# Altium schematic symbol library WE-TVS.SchLib: 29 symbols
Pins are listed as number, name and electrical type; pins without a type are passive.

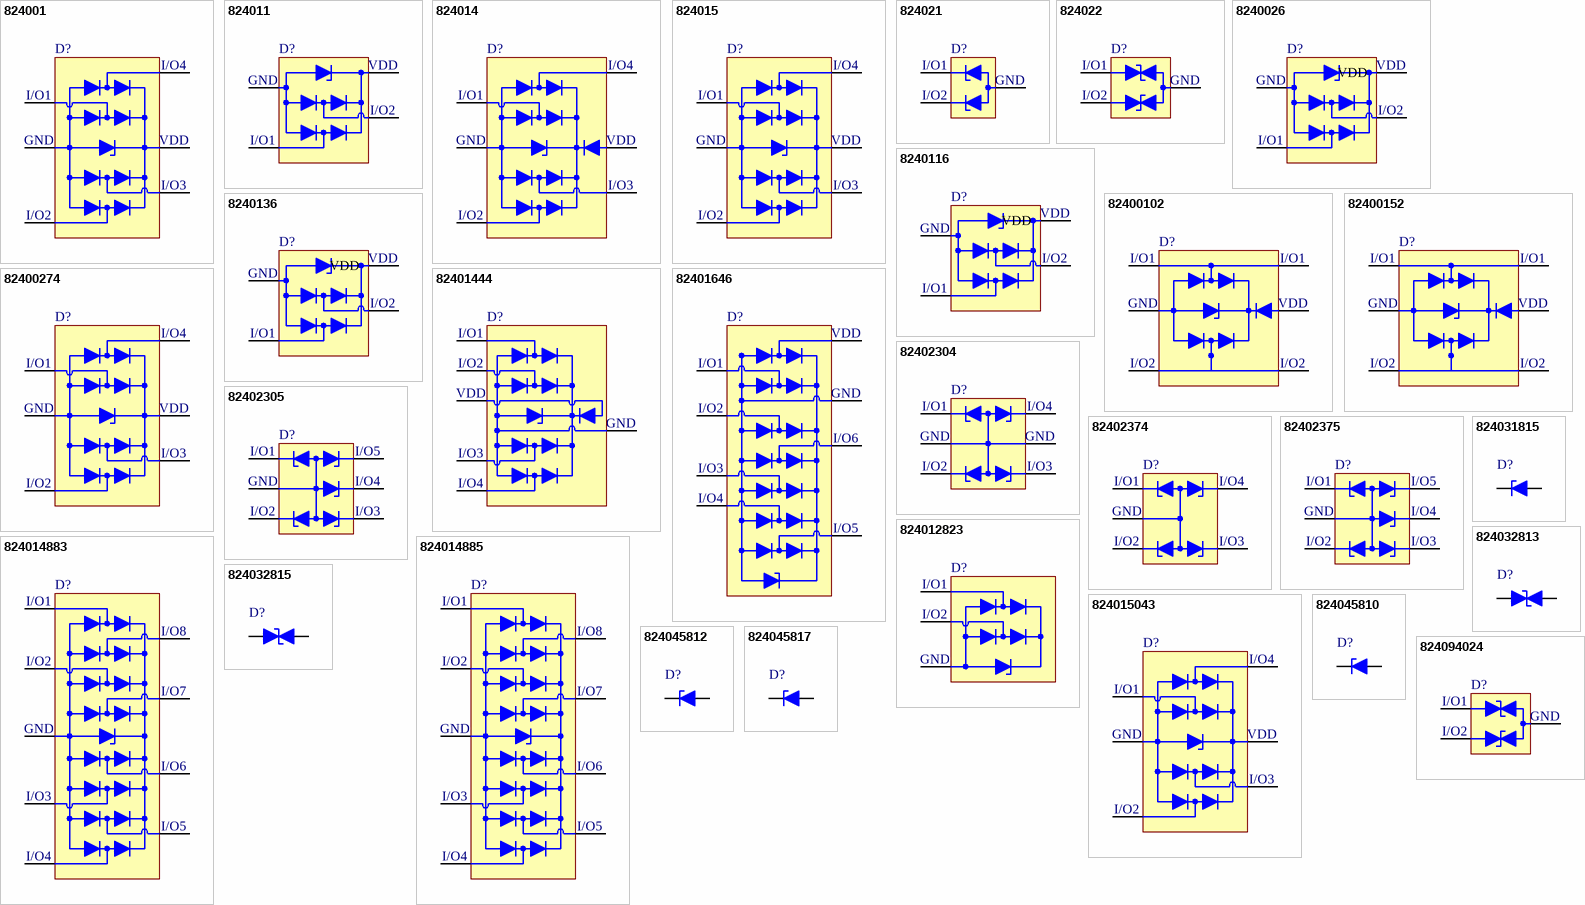
[diagram p0: symbols 824001 to 824094024]

## 824001
designator D?, comment 5V  (value not drawn)
WE-TVS TVS Diode High Speed Series, SMT, SOT23-6L, 5V, 4+1Channel; Manufacturer Part Number: 824001; Manufacturer: Wurth Elektronik; Channel ESD Clamping Voltage: 14V; (Channel) Input Capacitance: 1pF; Channel (Reverse) Leakage Current: 2uA; ESD Contact Discharge Capability: 8kV; Number of Channels: 4+1; Polarity: Unidirectional; (Reverse) Breakdown Voltage: 6.2 V; (Reverse) Peak Pulse Current: 5A; Category: ESD Protection; Match Code: WE-TVS; ComponentLink1Description: Website Link; ComponentLink1URL: https://www.we-online.com/redexpert/article/824001?ad; ComponentLink2Description: Datasheet Link; ComponentLink2URL: https://www.we-online.com/redexpert/spec/824001?ad; Mount: Surface Mount; Operating Temperature Min: 125degC; Operating Temperature Max: -40degC; Packaging: Tape and Reel; Case/Size Code: SOT23-6L; Length: 2.9mm; Width: 2.8mm; Height: 1.45mm; Channel Operating Voltage: 5V
footprint WE-TVS_SOT23-6L
pins: 1 I/O 1, 2 GND, 3 I/O 2, 4 I/O 3, 5 VDD, 6 I/O 4
text: I/O4; I/O1; I/O3; I/O2

## 824011
designator D?, comment 5V  (value not drawn)
WE-TVS TVS Diode High Speed Series, SMT, SOT23-5L, 5V, 2+1Channel; Manufacturer Part Number: 824011; Manufacturer: Wurth Elektronik; Channel ESD Clamping Voltage: 13V; (Channel) Input Capacitance: 2pF; Channel (Reverse) Leakage Current: 1uA; ESD Contact Discharge Capability: 16kV; Number of Channels: 2+1; Polarity: Unidirectional; (Reverse) Breakdown Voltage: 6.1 V; (Reverse) Peak Pulse Current: 13A; Category: ESD Protection; Match Code: WE-TVS; ComponentLink1Description: Website Link; ComponentLink1URL: https://www.we-online.com/redexpert/article/824011?ad; ComponentLink2Description: Datasheet Link; ComponentLink2URL: https://www.we-online.com/redexpert/spec/824011?ad; Mount: Surface Mount; Operating Temperature Min: 125degC; Operating Temperature Max: -55degC; Packaging: Tape and Reel; Case/Size Code: SOT23-5L; Length: 2.9mm; Width: 2.8mm; Height: 1.16mm; Channel Operating Voltage: 5V
footprint WE-TVS_SOT23-5L
pins: 2 GND, 3 I/O 1, 4 I/O 2, 5 VDD
text: I/O2; I/O1

## 824014
designator D?, comment 5V  (value not drawn)
WE-TVS TVS Diode Super Speed Series, SMT, SOT23-6L, 5V, 4+1Channel; Manufacturer Part Number: 824014; Manufacturer: Wurth Elektronik; Channel ESD Clamping Voltage: 12V; (Channel) Input Capacitance: 0.55pF; ESD Contact Discharge Capability: 10kV; Number of Channels: 4+1; Polarity: Unidirectional; (Reverse) Breakdown Voltage: 6 V; (Reverse) Peak Pulse Current: 4A; Category: ESD Protection; Match Code: WE-TVS; ComponentLink1Description: Website Link; ComponentLink1URL: https://www.we-online.com/redexpert/article/824014?ad; ComponentLink2Description: Datasheet Link; ComponentLink2URL: https://www.we-online.com/redexpert/spec/824014?ad; Mount: Surface Mount; Operating Temperature Min: 85degC; Operating Temperature Max: -55degC; Packaging: Tape and Reel; Case/Size Code: SOT23-6L; Length: 2.9mm; Width: 2.8mm; Height: 1.45mm; Channel Operating Voltage: 5V
footprint WE-TVS_SOT23-6L
pins: 1 I/O 1, 2 GND, 3 I/O 2, 4 I/O 3, 5 VDD, 6 I/O 4
text: I/O4; I/O1; I/O3; I/O2

## 824015
designator D?, comment 5V  (value not drawn)
WE-TVS TVS Diode High Speed Series, SMT, SOT23-6L, 5V, 4+1Channel; Manufacturer Part Number: 824015; Manufacturer: Wurth Elektronik; Channel ESD Clamping Voltage: 13V; (Channel) Input Capacitance: 1pF; Channel (Reverse) Leakage Current: 1uA; ESD Contact Discharge Capability: 12kV; Number of Channels: 4+1; Polarity: Unidirectional; (Reverse) Breakdown Voltage: 6.1 V; (Reverse) Peak Pulse Current: 12A; Category: ESD Protection; Match Code: WE-TVS; ComponentLink1Description: Website Link; ComponentLink1URL: https://www.we-online.com/redexpert/article/824015?ad; ComponentLink2Description: Datasheet Link; ComponentLink2URL: https://www.we-online.com/redexpert/spec/824015?ad; Mount: Surface Mount; Operating Temperature Min: 125degC; Operating Temperature Max: -40degC; Packaging: Tape and Reel; Case/Size Code: SOT23-6L; Length: 2.9mm; Width: 2.8mm; Height: 1.45mm; Channel Operating Voltage: 5V
footprint WE-TVS_SOT23-6L
pins: 1 I/O 1, 2 GND, 3 I/O 2, 4 I/O 3, 5 VDD, 6 I/O 4
text: I/O4; I/O1; I/O3; I/O2

## 824021
designator D?, comment 5V  (value not drawn)
WE-TVS TVS Diode Standard Series, SMT, SOT23-3L, 5V, 2Channel; Manufacturer Part Number: 824021; Manufacturer: Wurth Elektronik; Channel ESD Clamping Voltage: 10V; (Channel) Input Capacitance: 55pF; ESD Contact Discharge Capability: 18kV; Number of Channels: 2; Polarity: Unidirectional; (Reverse) Breakdown Voltage: 6.1 V; (Reverse) Peak Pulse Current: 15A; Category: ESD Protection; Match Code: WE-TVS; ComponentLink1Description: Website Link; ComponentLink1URL: https://www.we-online.com/redexpert/article/824021?ad; ComponentLink2Description: Datasheet Link; ComponentLink2URL: https://www.we-online.com/redexpert/spec/824021?ad; Mount: Surface Mount; Operating Temperature Min: 125degC; Operating Temperature Max: -55degC; Packaging: Tape and Reel; Case/Size Code: SOT23-3L; Length: 2.9mm; Width: 2.4mm; Height: 1.1mm; Channel Operating Voltage: 5V
footprint WE-TVS_SOT23-3L
pins: 1 I/O 1, 2 I/O 2, 3 GND
text: I/O1; I/O2

## 824022
designator D?, comment 5V  (value not drawn)
WE-TVS TVS Diode Standard Series, SMT, SOT23-3L, 5V, 2Channel; Manufacturer Part Number: 824022; Manufacturer: Wurth Elektronik; Channel ESD Clamping Voltage: 9V; (Channel) Input Capacitance: 12pF; ESD Contact Discharge Capability: 12kV; Number of Channels: 2; Polarity: Bidirectional; (Reverse) Breakdown Voltage: 6.1 V; (Reverse) Peak Pulse Current: 8A; Category: ESD Protection; Match Code: WE-TVS; ComponentLink1Description: Website Link; ComponentLink1URL: https://www.we-online.com/redexpert/article/824022?ad; ComponentLink2Description: Datasheet Link; ComponentLink2URL: https://www.we-online.com/redexpert/spec/824022?ad; Mount: Surface Mount; Operating Temperature Min: 125degC; Operating Temperature Max: -55degC; Packaging: Tape and Reel; Case/Size Code: SOT23-3L; Length: 2.9mm; Width: 2.4mm; Height: 1.1mm; Channel Operating Voltage: 5V
footprint WE-TVS_SOT23-3L
pins: 1 I/O 1, 2 I/O 2, 3 GND
text: I/O1; I/O2

## 8240026
designator D?, comment 5V  (value not drawn)
WE-TVS TVS Diode High Speed Series, SMT, SOT143-4L, 5V, 2+1Channel; Manufacturer Part Number: 8240026; Manufacturer: Wurth Elektronik; Channel ESD Clamping Voltage: 12.5V; (Channel) Input Capacitance: 1.2pF; Channel (Reverse) Leakage Current: 1uA; ESD Contact Discharge Capability: 12kV; Number of Channels: 2+1; Polarity: Unidirectional; (Reverse) Breakdown Voltage: 6 V; (Reverse) Peak Pulse Current: 6A; Category: ESD Protection; Match Code: WE-TVS; ComponentLink1Description: Website Link; ComponentLink1URL: https://www.we-online.com/redexpert/article/8240026?ad; ComponentLink2Description: Datasheet Link; ComponentLink2URL: https://www.we-online.com/redexpert/spec/8240026?ad; Mount: Surface Mount; Operating Temperature Min: 125degC; Operating Temperature Max: -55degC; Packaging: Tape and Reel; Case/Size Code: SOT143-4L; Length: 2.95mm; Width: 2.4mm; Height: 1.08mm; Channel Operating Voltage: 5V
footprint WE-TVS_SOT143-4L
pins: 1 GND, 2 I/O 1, 3 I/O 2, 4 VDD
text: I/O2; I/O1

## 8240116
designator D?, comment 5V  (value not drawn)
WE-TVS TVS Diode High Speed Series, SMT, SOT143-4L, 5V, 2+1Channel; Manufacturer Part Number: 8240116; Manufacturer: Wurth Elektronik; Channel ESD Clamping Voltage: 13V; (Channel) Input Capacitance: 2pF; Channel (Reverse) Leakage Current: 1uA; ESD Contact Discharge Capability: 12kV; Number of Channels: 2+1; Polarity: Unidirectional; (Reverse) Breakdown Voltage: 6.1 V; (Reverse) Peak Pulse Current: 12A; Category: ESD Protection; Match Code: WE-TVS; ComponentLink1Description: Website Link; ComponentLink1URL: https://www.we-online.com/redexpert/article/8240116?ad; ComponentLink2Description: Datasheet Link; ComponentLink2URL: https://www.we-online.com/redexpert/spec/8240116?ad; Mount: Surface Mount; Operating Temperature Min: 125degC; Operating Temperature Max: -55degC; Packaging: Tape and Reel; Case/Size Code: SOT143-4L; Length: 2.95mm; Width: 2.4mm; Height: 1.08mm; Channel Operating Voltage: 5V
footprint WE-TVS_SOT143-4L
pins: 1 GND, 2 I/O 1, 3 I/O 2, 4 VDD
text: I/O2; I/O1

## 8240136
designator D?, comment 3.3V  (value not drawn)
WE-TVS TVS Diode High Speed Series, SMT, SOT143-4L, 3.3V, 2+1Channel; Manufacturer Part Number: 8240136; Manufacturer: Wurth Elektronik; Channel ESD Clamping Voltage: 9V; (Channel) Input Capacitance: 3pF; Channel (Reverse) Leakage Current: 1uA; ESD Contact Discharge Capability: 24kV; Number of Channels: 2+1; Polarity: Unidirectional; (Reverse) Breakdown Voltage: 4.5 V; (Reverse) Peak Pulse Current: 12A; Category: ESD Protection; Match Code: WE-TVS; ComponentLink1Description: Website Link; ComponentLink1URL: https://www.we-online.com/redexpert/article/8240136?ad; ComponentLink2Description: Datasheet Link; ComponentLink2URL: https://www.we-online.com/redexpert/spec/8240136?ad; Mount: Surface Mount; Operating Temperature Min: 125degC; Operating Temperature Max: -55degC; Packaging: Tape and Reel; Case/Size Code: SOT143-4L; Length: 2.95mm; Width: 2.4mm; Height: 1.08mm; Channel Operating Voltage: 3.3V
footprint WE-TVS_SOT143-4L
pins: 1 GND, 2 I/O 1, 3 I/O 2, 4 VDD
text: I/O2; I/O1

## 82400102
designator D?, comment 5V  (value not drawn)
WE-TVS TVS Diode High Speed Series, SMT, SOT23-6L, 5V, 2+1Channel; Manufacturer Part Number: 82400102; Manufacturer: Wurth Elektronik; Channel ESD Clamping Voltage: 10V; (Channel) Input Capacitance: 2pF; Channel (Reverse) Leakage Current: 1uA; ESD Contact Discharge Capability: 8kV; Number of Channels: 2+1; Polarity: Unidirectional; (Reverse) Breakdown Voltage: 6 V; (Reverse) Peak Pulse Current: 7A; Category: ESD Protection; Match Code: WE-TVS; ComponentLink1Description: Website Link; ComponentLink1URL: https://www.we-online.com/redexpert/article/82400102?ad; ComponentLink2Description: Datasheet Link; ComponentLink2URL: https://www.we-online.com/redexpert/spec/82400102?ad; Mount: Surface Mount; Operating Temperature Min: 125degC; Operating Temperature Max: -40degC; Packaging: Tape and Reel; Case/Size Code: SOT23-6L; Length: 2.9mm; Width: 2.8mm; Height: 1.45mm; Channel Operating Voltage: 5V
footprint WE-TVS_SOT23-6L
pins: 1 I/O 1, 2 GND, 3 I/O 2, 4 I/O 2, 5 VDD, 6 I/O 1
text: I/O1; I/O2

## 82400152
designator D?, comment 5V  (value not drawn)
WE-TVS TVS Diode High Speed Series, SMT, SOT563, 5V, 2+1Channel; Manufacturer Part Number: 82400152; Manufacturer: Wurth Elektronik; Channel ESD Clamping Voltage: 10V; (Channel) Input Capacitance: 2pF; Channel (Reverse) Leakage Current: 1uA; ESD Contact Discharge Capability: 8kV; Number of Channels: 2+1; Polarity: Unidirectional; (Reverse) Breakdown Voltage: 6 V; (Reverse) Peak Pulse Current: 6A; Category: ESD Protection; Match Code: WE-TVS; ComponentLink1Description: Website Link; ComponentLink1URL: https://www.we-online.com/redexpert/article/82400152?ad; ComponentLink2Description: Datasheet Link; ComponentLink2URL: https://www.we-online.com/redexpert/spec/82400152?ad; Mount: Surface Mount; Operating Temperature Min: 125degC; Operating Temperature Max: -40degC; Packaging: Tape and Reel; Case/Size Code: SOT563; Length: 1.6mm; Width: 1.6mm; Height: 0.55mm; Channel Operating Voltage: 5V
footprint WE-TVS_SOT563
pins: 1 I/O 1, 2 GND, 3 I/O 2, 4 I/O 2, 5 VDD, 6 I/O 1
text: I/O1; I/O2

## 82400274
designator D?, comment 5V  (value not drawn)
WE-TVS TVS Diode High Speed Series, SMT, SC70-6L, 5V, 4+1Channel; Manufacturer Part Number: 82400274; Manufacturer: Wurth Elektronik; Channel ESD Clamping Voltage: 12.5V; (Channel) Input Capacitance: 1.2pF; Channel (Reverse) Leakage Current: 1uA; ESD Contact Discharge Capability: 12kV; Number of Channels: 4+1; Polarity: Unidirectional; (Reverse) Breakdown Voltage: 6 V; (Reverse) Peak Pulse Current: 6A; Category: ESD Protection; Match Code: WE-TVS; ComponentLink1Description: Website Link; ComponentLink1URL: https://www.we-online.com/redexpert/article/82400274?ad; ComponentLink2Description: Datasheet Link; ComponentLink2URL: https://www.we-online.com/redexpert/spec/82400274?ad; Mount: Surface Mount; Operating Temperature Min: 85degC; Operating Temperature Max: -55degC; Packaging: Tape and Reel; Case/Size Code: SC70-6L; Length: 2.1mm; Width: 2mm; Height: 1mm; Channel Operating Voltage: 5V
footprint WE-TVS_SC70-6L
pins: 1 I/O 1, 2 GND, 3 I/O 2, 4 I/O 3, 5 VDD, 6 I/O 4
text: I/O4; I/O1; I/O3; I/O2

## 82401444
designator D?, comment 5V  (value not drawn)
WE-TVS TVS Diode Super Speed Series, SMT, MSOP-10L, 5V, 4+1Channel; Manufacturer Part Number: 82401444; Manufacturer: Wurth Elektronik; Channel ESD Clamping Voltage: 12V; (Channel) Input Capacitance: 0.55pF; ESD Contact Discharge Capability: 10kV; Number of Channels: 4+1; Polarity: Unidirectional; (Reverse) Breakdown Voltage: 6 V; (Reverse) Peak Pulse Current: 5A; Category: ESD Protection; Match Code: WE-TVS; ComponentLink1Description: Website Link; ComponentLink1URL: https://www.we-online.com/redexpert/article/82401444?ad; ComponentLink2Description: Datasheet Link; ComponentLink2URL: https://www.we-online.com/redexpert/spec/82401444?ad; Mount: Surface Mount; Operating Temperature Min: 85degC; Operating Temperature Max: -55degC; Packaging: Tape and Reel; Case/Size Code: MSOP-10L; Length: 4.9mm; Width: 3mm; Height: 0.96mm; Channel Operating Voltage: 5V
footprint WE-TVS_MSOP-10L
pins: 1 I/O 1, 2 I/O 2, 3 VDD, 4 I/O 3, 5 I/O 4, 8 GND
text: I/O1; I/O2; I/O3; I/O4

## 82401646
designator D?, comment 5V  (value not drawn)
WE-TVS TVS Diode Super Speed Series, SMT, MSOP-8L, 5V, 6+1Channel; Manufacturer Part Number: 82401646; Manufacturer: Wurth Elektronik; Channel ESD Clamping Voltage: 13V; ESD Contact Discharge Capability: 8kV; Number of Channels: 6+1; Polarity: Unidirectional; (Reverse) Breakdown Voltage: 6 V; Category: ESD Protection; Match Code: WE-TVS; ComponentLink1Description: Website Link; ComponentLink1URL: https://www.we-online.com/redexpert/article/82401646?ad; ComponentLink2Description: Datasheet Link; ComponentLink2URL: https://www.we-online.com/redexpert/spec/82401646?ad; Mount: Surface Mount; Operating Temperature Min: 85degC; Operating Temperature Max: -55degC; Packaging: Tape and Reel; Case/Size Code: MSOP-8L; Length: 4.9mm; Width: 3mm; Height: 0.96mm; Channel Operating Voltage: 5V
footprint WE-TVS_MSOP-8L
pins: 1 I/O 1, 2 I/O 2, 3 I/O 3, 4 I/O 4, 5 I/O 5, 6 I/O 6, 7 GND, 8 VDD
text: I/O1; I/O2; I/O6; I/O3; I/O4; I/O5

## 82402304
designator D?, comment 5V  (value not drawn)
WE-TVS TVS Diode Standard Series, SMT, SOT23-6L, 5V, 4Channel; Manufacturer Part Number: 82402304; Manufacturer: Wurth Elektronik; Channel ESD Clamping Voltage: 8.5V; (Channel) Input Capacitance: 13pF; ESD Contact Discharge Capability: 10kV; Number of Channels: 4; Polarity: Unidirectional; (Reverse) Breakdown Voltage: 6 V; (Reverse) Peak Pulse Current: 6A; Category: ESD Protection; Match Code: WE-TVS; ComponentLink1Description: Website Link; ComponentLink1URL: https://www.we-online.com/redexpert/article/82402304?ad; ComponentLink2Description: Datasheet Link; ComponentLink2URL: https://www.we-online.com/redexpert/spec/82402304?ad; Mount: Surface Mount; Operating Temperature Min: 85degC; Operating Temperature Max: -55degC; Packaging: Tape and Reel; Case/Size Code: SOT23-6L; Length: 2.9mm; Width: 2.8mm; Height: 1.45mm; Channel Operating Voltage: 5V
footprint WE-TVS_SOT23-6L
pins: 1 I/O 1, 2 GND, 3 I/O 2, 4 I/O 3, 5 GND, 6 I/O 4
text: I/O1; I/O4; I/O2; I/O3

## 82402305
designator D?, comment 5V  (value not drawn)
WE-TVS TVS Diode Standard Series, SMT, SOT23-6L, 5V, 5Channel; Manufacturer Part Number: 82402305; Manufacturer: Wurth Elektronik; Channel ESD Clamping Voltage: 8V; (Channel) Input Capacitance: 13pF; ESD Contact Discharge Capability: 10kV; Number of Channels: 5; Polarity: Unidirectional; (Reverse) Breakdown Voltage: 6 V; (Reverse) Peak Pulse Current: 6A; Category: ESD Protection; Match Code: WE-TVS; ComponentLink1Description: Website Link; ComponentLink1URL: https://www.we-online.com/redexpert/article/82402305?ad; ComponentLink2Description: Datasheet Link; ComponentLink2URL: https://www.we-online.com/redexpert/spec/82402305?ad; Mount: Surface Mount; Operating Temperature Min: 85degC; Operating Temperature Max: -55degC; Packaging: Tape and Reel; Case/Size Code: SOT23-6L; Length: 2.9mm; Width: 2.8mm; Height: 1.45mm; Channel Operating Voltage: 5V
footprint WE-TVS_SOT23-6L
pins: 1 I/O 1, 2 GND, 3 I/O 2, 4 I/O 3, 5 I/O 4, 6 I/O 5
text: I/O1; I/O5; I/O4; I/O2; I/O3

## 82402374
designator D?, comment 5V  (value not drawn)
WE-TVS TVS Diode Standard Series, SMT, SC70-5L, 5V, 4Channel; Manufacturer Part Number: 82402374; Manufacturer: Wurth Elektronik; Channel ESD Clamping Voltage: 8.5V; (Channel) Input Capacitance: 13pF; ESD Contact Discharge Capability: 10kV; Number of Channels: 4; Polarity: Unidirectional; (Reverse) Breakdown Voltage: 6 V; (Reverse) Peak Pulse Current: 6A; Category: ESD Protection; Match Code: WE-TVS; ComponentLink1Description: Website Link; ComponentLink1URL: https://www.we-online.com/redexpert/article/82402374?ad; ComponentLink2Description: Datasheet Link; ComponentLink2URL: https://www.we-online.com/redexpert/spec/82402374?ad; Mount: Surface Mount; Operating Temperature Min: 85degC; Operating Temperature Max: -55degC; Packaging: Tape and Reel; Case/Size Code: SC70-5L; Length: 2.1mm; Width: 2mm; Height: 1mm; Channel Operating Voltage: 5V
footprint WE-TVS_SC70-5L
pins: 1 I/O 1, 2 GND, 3 I/O 2, 4 I/O 3, 5 I/O 4
text: I/O1; I/O4; I/O2; I/O3

## 82402375
designator D?, comment 5V  (value not drawn)
WE-TVS TVS Diode Standard Series, SMT, SC70-6L, 5V, 5Channel; Manufacturer Part Number: 82402375; Manufacturer: Wurth Elektronik; Channel ESD Clamping Voltage: 8V; (Channel) Input Capacitance: 13pF; ESD Contact Discharge Capability: 10kV; Number of Channels: 5; Polarity: Unidirectional; (Reverse) Breakdown Voltage: 6 V; (Reverse) Peak Pulse Current: 6A; Category: ESD Protection; Match Code: WE-TVS; ComponentLink1Description: Website Link; ComponentLink1URL: https://www.we-online.com/redexpert/article/82402375?ad; ComponentLink2Description: Datasheet Link; ComponentLink2URL: https://www.we-online.com/redexpert/spec/82402375?ad; Mount: Surface Mount; Operating Temperature Min: 85degC; Operating Temperature Max: -55degC; Packaging: Tape and Reel; Case/Size Code: SC70-6L; Length: 2.1mm; Width: 2mm; Height: 1mm; Channel Operating Voltage: 5V
footprint WE-TVS_SC70-6L
pins: 1 I/O 1, 2 GND, 3 I/O 2, 4 I/O 3, 5 I/O 4, 6 I/O 5
text: I/O1; I/O5; I/O4; I/O2; I/O3

## 824012823
designator D?, comment 3.3V  (value not drawn)
WE-TVS TVS Diode Super Speed Series, SMT, DFN1210-6L, 3.3V, 2Channel; Manufacturer Part Number: 824012823; Manufacturer: Wurth Elektronik; Channel ESD Clamping Voltage: 13V; (Channel) Input Capacitance: 0.18pF; Channel (Reverse) Leakage Current: 0.5uA; ESD Contact Discharge Capability: 8kV; Number of Channels: 2; Polarity: Unidirectional; (Reverse) Breakdown Voltage: 4.5 V; (Reverse) Peak Pulse Current: 3A; Category: ESD Protection; Match Code: WE-TVS; ComponentLink1Description: Website Link; ComponentLink1URL: https://www.we-online.com/redexpert/article/824012823?ad; ComponentLink2Description: Datasheet Link; ComponentLink2URL: https://www.we-online.com/redexpert/spec/824012823?ad; Mount: Surface Mount; Operating Temperature Min: 85degC; Operating Temperature Max: -55degC; Packaging: Tape and Reel; Case/Size Code: DFN1210-6L; Length: 1.2mm; Width: 1mm; Height: 0.45mm; Channel Operating Voltage: 3.3V
footprint WE-TVS_DFN1210-6L
pins: 1 I/O 1, 2 I/O 2, 3 GND
text: I/O1; I/O2

## 824014883
designator D?, comment 3.3V  (value not drawn)
WE-TVS TVS Diode Super Speed Series, SMT, DFN3810-9L, 3.3V, 8Channel; Manufacturer Part Number: 824014883; Manufacturer: Wurth Elektronik; Channel ESD Clamping Voltage: 9V; (Channel) Input Capacitance: 0.5pF; ESD Contact Discharge Capability: 12kV; Number of Channels: 8; Polarity: Unidirectional; (Reverse) Breakdown Voltage: 4.5 V; (Reverse) Peak Pulse Current: 5A; Category: ESD Protection; Match Code: WE-TVS; ComponentLink1Description: Website Link; ComponentLink1URL: https://www.we-online.com/redexpert/article/824014883?ad; ComponentLink2Description: Datasheet Link; ComponentLink2URL: https://www.we-online.com/redexpert/spec/824014883?ad; Mount: Surface Mount; Operating Temperature Min: 85degC; Operating Temperature Max: -55degC; Packaging: Tape and Reel; Case/Size Code: DFN3810-9L; Length: 3.8mm; Width: 1mm; Height: 0.5mm; Channel Operating Voltage: 3.3V
footprint WE-TVS_DFN3810-9L
pins: 1 I/O 1, 2 I/O 2, 3 GND, 4 I/O 3, 5 I/O 4, 6 I/O 5, 7 I/O 6, 8 I/O 7, 9 I/O 8
text: I/O1; I/O8; I/O2; I/O7; I/O6; I/O3; I/O5; I/O4

## 824014885
designator D?, comment 5V  (value not drawn)
WE-TVS TVS Diode Super Speed Series, SMT, DFN3810-9L, 5V, 8Channel; Manufacturer Part Number: 824014885; Manufacturer: Wurth Elektronik; Channel ESD Clamping Voltage: 10.5V; (Channel) Input Capacitance: 0.5pF; ESD Contact Discharge Capability: 15kV; Number of Channels: 8; Polarity: Unidirectional; (Reverse) Breakdown Voltage: 6 V; (Reverse) Peak Pulse Current: 5A; Category: ESD Protection; Match Code: WE-TVS; ComponentLink1Description: Website Link; ComponentLink1URL: https://www.we-online.com/redexpert/article/824014885?ad; ComponentLink2Description: Datasheet Link; ComponentLink2URL: https://www.we-online.com/redexpert/spec/824014885?ad; Mount: Surface Mount; Operating Temperature Min: 85degC; Operating Temperature Max: -55degC; Packaging: Tape and Reel; Case/Size Code: DFN3810-9L; Length: 3.8mm; Width: 1mm; Height: 0.5mm; Channel Operating Voltage: 5V
footprint WE-TVS_DFN3810-9L
pins: 1 I/O 1, 2 I/O 2, 3 GND, 4 I/O 3, 5 I/O 4, 6 I/O 5, 7 I/O 6, 8 I/O 7, 9 I/O 8
text: I/O1; I/O8; I/O2; I/O7; I/O6; I/O3; I/O5; I/O4

## 824015043
designator D?, comment 3.3V  (value not drawn)
WE-TVS TVS Diode High Speed Series, SMT, SOT23-6L, 3.3V, 4+1Channel; Manufacturer Part Number: 824015043; Manufacturer: Wurth Elektronik; Channel ESD Clamping Voltage: 7.5V; (Channel) Input Capacitance: 2pF; Channel (Reverse) Leakage Current: 1uA; ESD Contact Discharge Capability: 30kV; Number of Channels: 4+1; Polarity: Unidirectional; (Reverse) Breakdown Voltage: 4.5 V; (Reverse) Peak Pulse Current: 30A; Category: ESD Protection; Match Code: WE-TVS; ComponentLink1Description: Website Link; ComponentLink1URL: https://www.we-online.com/redexpert/article/824015043?ad; ComponentLink2Description: Datasheet Link; ComponentLink2URL: https://www.we-online.com/redexpert/spec/824015043?ad; Mount: Surface Mount; Operating Temperature Min: 125degC; Operating Temperature Max: -55degC; Packaging: Tape and Reel; Case/Size Code: SOT23-6L; Length: 2.9mm; Width: 2.8mm; Height: 1.45mm; Channel Operating Voltage: 3.3V
footprint WE-TVS_SOT23-6L
pins: 1 I/O 1, 2 GND, 3 I/O 2, 4 I/O 3, 5 VDD, 6 I/O 4
text: I/O4; I/O1; I/O3; I/O2

## 824031815
designator D?, comment 5V  (value not drawn)
WE-TVS TVS Diode Standard Series, SMT, DFN1610-2L, 5V, 1Channel; Manufacturer Part Number: 824031815; Manufacturer: Wurth Elektronik; Channel ESD Clamping Voltage: 6V; (Channel) Input Capacitance: 250pF; ESD Contact Discharge Capability: 30kV; Number of Channels: 1; Polarity: Unidirectional; (Reverse) Breakdown Voltage: 6 V; (Reverse) Peak Pulse Current: 80A; Category: ESD Protection; Match Code: WE-TVS; ComponentLink1Description: Website Link; ComponentLink1URL: https://www.we-online.com/redexpert/article/824031815?ad; ComponentLink2Description: Datasheet Link; ComponentLink2URL: https://www.we-online.com/redexpert/spec/824031815?ad; Mount: Surface Mount; Operating Temperature Min: 85degC; Operating Temperature Max: -55degC; Packaging: Tape and Reel; Case/Size Code: DFN1610-2L; Length: 1.6mm; Width: 1mm; Height: 0.5mm; Channel Operating Voltage: 5V
footprint WE-TVS_DFN1610-2L
pins: 1 I/O 1, 2 GND

## 824032813
designator D?, comment 3.3V  (value not drawn)
WE-TVS TVS Diode Standard Series, SMT, DFN1610-2L, 3.3V, 1Channel; Manufacturer Part Number: 824032813; Manufacturer: Wurth Elektronik; Channel ESD Clamping Voltage: 4.7V; (Channel) Input Capacitance: 280pF; ESD Contact Discharge Capability: 30kV; Number of Channels: 1; Polarity: Bidirectional; (Reverse) Breakdown Voltage: 4 V; (Reverse) Peak Pulse Current: 180A; Category: ESD Protection; Match Code: WE-TVS; ComponentLink1Description: Website Link; ComponentLink1URL: https://www.we-online.com/redexpert/article/824032813?ad; ComponentLink2Description: Datasheet Link; ComponentLink2URL: https://www.we-online.com/redexpert/spec/824032813?ad; Mount: Surface Mount; Operating Temperature Min: 85degC; Operating Temperature Max: -55degC; Packaging: Tape and Reel; Case/Size Code: DFN1610-2L; Length: 1.6mm; Width: 1mm; Height: 0.5mm; Channel Operating Voltage: 3.3V
footprint WE-TVS_DFN1610-2L
pins: 1 I/O 1, 2 GND

## 824032815
designator D?, comment 5V  (value not drawn)
WE-TVS TVS Diode Standard Series, SMT, DFN1610-2L, 5V, 1Channel; Manufacturer Part Number: 824032815; Manufacturer: Wurth Elektronik; Channel ESD Clamping Voltage: 6V; (Channel) Input Capacitance: 140pF; ESD Contact Discharge Capability: 30kV; Number of Channels: 1; Polarity: Bidirectional; (Reverse) Breakdown Voltage: 6 V; (Reverse) Peak Pulse Current: 100A; Category: ESD Protection; Match Code: WE-TVS; ComponentLink1Description: Website Link; ComponentLink1URL: https://www.we-online.com/redexpert/article/824032815?ad; ComponentLink2Description: Datasheet Link; ComponentLink2URL: https://www.we-online.com/redexpert/spec/824032815?ad; Mount: Surface Mount; Operating Temperature Min: 85degC; Operating Temperature Max: -55degC; Packaging: Tape and Reel; Case/Size Code: DFN1610-2L; Length: 1.6mm; Width: 1mm; Height: 0.5mm; Channel Operating Voltage: 5V
footprint WE-TVS_DFN1610-2L
pins: 1 I/O 1, 2 GND

## 824045810
designator D?, comment 20V  (value not drawn)
WE-TVS TVS Diode Standard Series, SMT, DFN1610-2L, 20V, 1Channel; Manufacturer Part Number: 824045810; Manufacturer: Wurth Elektronik; Channel ESD Clamping Voltage: 25.5V; (Channel) Input Capacitance: 240pF; ESD Contact Discharge Capability: 30kV; Number of Channels: 1; Polarity: Unidirectional; (Reverse) Breakdown Voltage: 22.8 V; (Reverse) Peak Pulse Current: 24A; Category: ESD Protection; Match Code: WE-TVS; ComponentLink1Description: Website Link; ComponentLink1URL: https://www.we-online.com/redexpert/article/824045810?ad; ComponentLink2Description: Datasheet Link; ComponentLink2URL: https://www.we-online.com/redexpert/spec/824045810?ad; Mount: Surface Mount; Operating Temperature Min: 85degC; Operating Temperature Max: -55degC; Packaging: Tape and Reel; Case/Size Code: DFN1610-2L; Length: 1.6mm; Width: 1mm; Height: 0.5mm; Channel Operating Voltage: 20V
footprint WE-TVS_DFN1610-2L
pins: 1 I/O 1, 2 GND

## 824045812
designator D?, comment 12V  (value not drawn)
WE-TVS TVS Diode Standard Series, SMT, DFN1610-2L, 12V, 1Channel; Manufacturer Part Number: 824045812; Manufacturer: Wurth Elektronik; Channel ESD Clamping Voltage: 15V; (Channel) Input Capacitance: 440pF; ESD Contact Discharge Capability: 30kV; Number of Channels: 1; Polarity: Unidirectional; (Reverse) Breakdown Voltage: 13.3 V; (Reverse) Peak Pulse Current: 38A; Category: ESD Protection; Match Code: WE-TVS; ComponentLink1Description: Website Link; ComponentLink1URL: https://www.we-online.com/redexpert/article/824045812?ad; ComponentLink2Description: Datasheet Link; ComponentLink2URL: https://www.we-online.com/redexpert/spec/824045812?ad; Mount: Surface Mount; Operating Temperature Min: 85degC; Operating Temperature Max: -55degC; Packaging: Tape and Reel; Case/Size Code: DFN1610-2L; Length: 1.6mm; Width: 1mm; Height: 0.5mm; Channel Operating Voltage: 12V
footprint WE-TVS_DFN1610-2L
pins: 1 I/O 1, 2 GND

## 824045817
designator D?, comment 7V  (value not drawn)
WE-TVS TVS Diode Standard Series, SMT, DFN1610-2L, 7V, 1Channel; Manufacturer Part Number: 824045817; Manufacturer: Wurth Elektronik; Channel ESD Clamping Voltage: 10V; (Channel) Input Capacitance: 830pF; ESD Contact Discharge Capability: 30kV; Number of Channels: 1; Polarity: Unidirectional; (Reverse) Breakdown Voltage: 7.8 V; (Reverse) Peak Pulse Current: 60A; Category: ESD Protection; Match Code: WE-TVS; ComponentLink1Description: Website Link; ComponentLink1URL: https://www.we-online.com/redexpert/article/824045817?ad; ComponentLink2Description: Datasheet Link; ComponentLink2URL: https://www.we-online.com/redexpert/spec/824045817?ad; Mount: Surface Mount; Operating Temperature Min: 85degC; Operating Temperature Max: -55degC; Packaging: Tape and Reel; Case/Size Code: DFN1610-2L; Length: 1.6mm; Width: 1mm; Height: 0.5mm; Channel Operating Voltage: 7V
footprint WE-TVS_DFN1610-2L
pins: 1 I/O 1, 2 GND

## 824094024
designator D?, comment 24V  (value not drawn)
WE-TVS TVS Diode Standard Series, SMT, SOT23-3L, 24V, 2Channel; Manufacturer Part Number: 824094024; Manufacturer: Wurth Elektronik; Channel ESD Clamping Voltage: 31V; (Channel) Input Capacitance: 38pF; ESD Contact Discharge Capability: 30kV; Number of Channels: 2; Polarity: Bidirectional; (Reverse) Breakdown Voltage: 26.2 V; (Reverse) Peak Pulse Current: 6A; Category: ESD Protection; Match Code: WE-TVS; ComponentLink1Description: Website Link; ComponentLink1URL: https://www.we-online.com/redexpert/article/824094024?ad; ComponentLink2Description: Datasheet Link; ComponentLink2URL: https://www.we-online.com/redexpert/spec/824094024?ad; Mount: Surface Mount; Operating Temperature Min: 125degC; Operating Temperature Max: -55degC; Packaging: Tape and Reel; Case/Size Code: SOT23-3L; Length: 2.9mm; Width: 2.4mm; Height: 1.1mm; Channel Operating Voltage: 24V
footprint WE-TVS_SOT23-3L
pins: 1 I/O 1, 2 I/O 2, 3 GND
text: I/O1; I/O2